# Altium integrated library digital.IntLib: 15 symbols
Pins are listed as number, name and electrical type; pins without a type are passive.

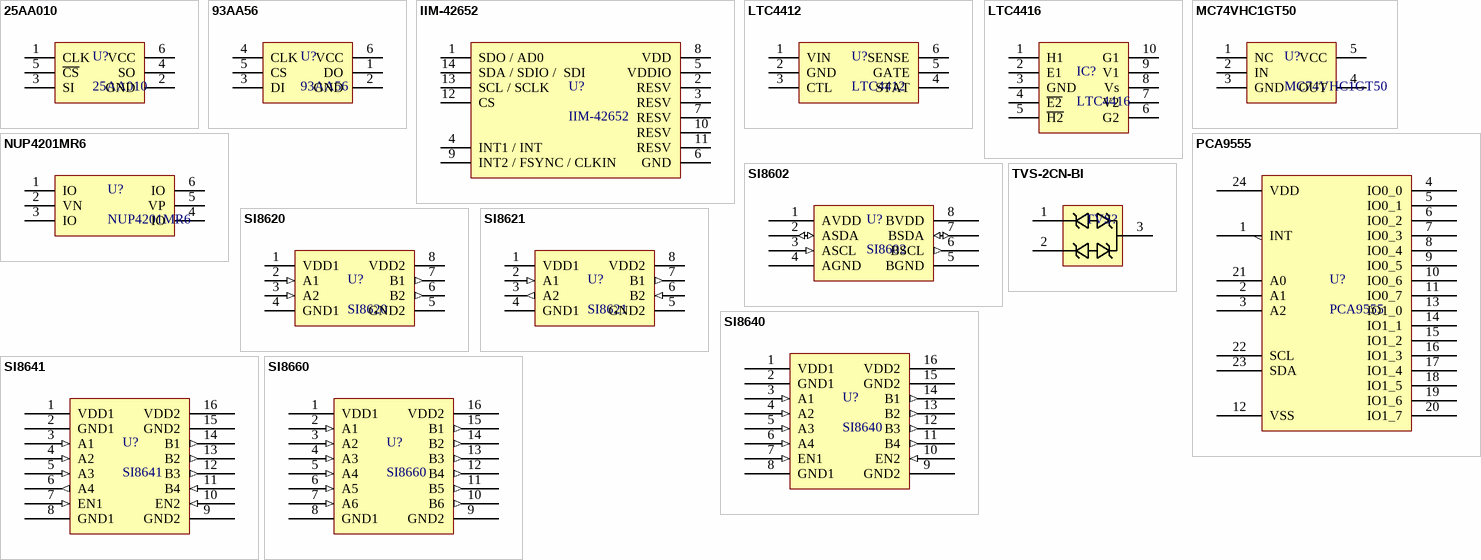
[diagram p0: symbols 25AA010 to TVS-2CN-BI]

## 25AA010
designator U?
EEPROM
footprint TSOT-23-6
pins: 1 CLK, 2 GND, 3 SI, 4 SO, 5 ~{CS}, 6 VCC

## 93AA56
designator U?
EEPROM
footprint TSOT-23-6
pins: 1 DO, 2 GND, 3 DI, 4 CLK, 5 CS, 6 VCC

## IIM-42652
designator U?
footprint IIM-42652_LGA14 (PQFN, 14-Leads, Body 3,00x2,50mm, Pitch 0,50mm, IPC Medium Density)
pins: 1 SDO / AD0, 2 RESV, 3 RESV, 4 INT1 / INT, 5 VDDIO, 6 GND, 7 RESV, 8 VDD, 9 INT2 / FSYNC / CLKIN, 10 RESV, 11 RESV, 12 CS, 13 SCL / SCLK, 14 SDA / SDIO /  SDI

## LTC4412
designator U?
footprint TSOT-23-6
pins: 1 VIN, 2 GND, 3 CTL, 4 STAT, 5 GATE, 6 SENSE

## LTC4416
designator IC?
PowerPath Controller, 3.6-36V, MSOP-10, LTC4416, Linear Technology; Manufacturer: Analog Devices / Linear Technology; Manufacturer Part Number: LTC4416EMS#PBF; Supply Voltage Range: 3.6V .. 36V; Number of Drivers: 2; Supplier 1: Mouser; Case/Package: MSOP-10; Operating Temperature Range: -40°C .. 85°C; ComponentLink4URL: https://datasheet.ciiva.com/1960/17899-1960765.pdf; ComponentLink4Description: Datasheet; Supplier 2: TME; Supplier Part Number 2: LTC4416EMSPBF; Supplier Part Number 1: 584-LTC4416EMS#PBF
footprint MSOP-10
footprint MSOP-10_SMALL_PADS
pins: 1 H1, 2 E1, 3 GND, 4 ~{E2}, 5 ~{H2}, 6 G2, 7 V2, 8 Vs, 9 V1, 10 G1

## MC74VHC1GT50
designator U?
footprint SC70-5
pins: 1 NC, 2 IN, 3 GND, 4 OUT, 5 VCC

## NUP4201MR6
designator U?
footprint TSOP-6
pins: 1 IO, 2 VN, 3 IO, 4 IO, 5 VP, 6 IO

## PCA9555
designator U?
footprint TSSOP24
pins: 1 INT (oc), 2 A1, 3 A2, 4 IO0_0, 5 IO0_1, 6 IO0_2, 7 IO0_3, 8 IO0_4, 9 IO0_5, 10 IO0_6, 11 IO0_7, 12 VSS, 13 IO1_0, 14 IO1_1, 15 IO1_2, 16 IO1_3, 17 IO1_4, 18 IO1_5, 19 IO1_6, 20 IO1_7, 21 A0, 22 SCL, 23 SDA, 24 VDD

## SI8602
designator U?
footprint SOIC8
pins: 1 AVDD (power), 2 ASDA (io), 3 ASCL (in), 4 AGND (power), 5 BGND (power), 6 BSCL (out), 7 BSDA (io), 8 BVDD (power)

## SI8620
designator U?
footprint SOIC8
pins: 1 VDD1, 2 A1 (in), 3 A2 (in), 4 GND1, 5 GND2, 6 B2 (out), 7 B1 (out), 8 VDD2

## SI8621
designator U?
footprint SOIC8
pins: 1 VDD1, 2 A1 (in), 3 A2 (out), 4 GND1, 5 GND2, 6 B2 (in), 7 B1 (out), 8 VDD2

## SI8640
designator U?
footprint SOIC16
pins: 1 VDD1 (power), 2 GND1 (power), 3 A1 (in), 4 A2 (in), 5 A3 (in), 6 A4 (in), 7 EN1 (in), 8 GND1 (power), 9 GND2 (power), 10 EN2 (in), 11 B4 (out), 12 B3 (out), 13 B2 (out), 14 B1 (out), 15 GND2 (power), 16 VDD2 (power)

## SI8641
designator U?
footprint SOIC16
pins: 1 VDD1 (power), 2 GND1 (power), 3 A1 (in), 4 A2 (in), 5 A3 (in), 6 A4 (out), 7 EN1 (in), 8 GND1 (power), 9 GND2 (power), 10 EN2 (in), 11 B4 (in), 12 B3 (out), 13 B2 (out), 14 B1 (out), 15 GND2 (power), 16 VDD2 (power)

## SI8660
designator U?
footprint SOIC16
footprint QSOP16
pins: 1 VDD1 (power), 2 A1 (in), 3 A2 (in), 4 A3 (in), 5 A4 (in), 6 A5 (in), 7 A6 (in), 8 GND1 (power), 9 GND2 (power), 10 B6 (out), 11 B5 (out), 12 B4 (out), 13 B3 (out), 14 B2 (out), 15 B1 (out), 16 VDD2 (power)

## TVS-2CN-BI
designator TVS?  (value not drawn)
footprint SOT23-3
pins: 1, 2, 3